# EAGLE library part AP65111AWU-7 (library CMWC-Product)
Buck Switching Regulator IC Positive Adjustable 0.8V / 1 Output 1.5A / SOT-23-6 Thin / TSOT-23-6
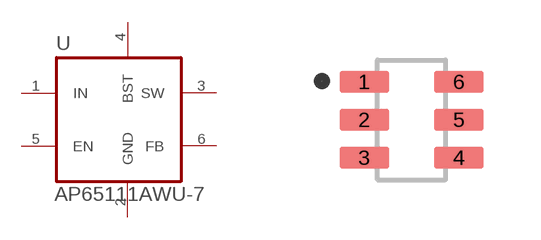
[diagram p4: symbol with the pads of SOT95P280X100-6N; footprint SOT95P280X100-6N]

Designator prefix U

## AP65111AWU-7 (DIGI-KEY_PART_NUMBER: AP65111AWU-7DICT-ND; MF: Diodes Inc.; MP: AP65111AWU-7; PACKAGE: TSOT-23-6 Diodes Inc.; VALUE: AP65111AWU)  [SOT95P280X100-6N]
1  IN  in
2  GND  pwr
3  SW  out
4  BST  in
5  EN  in
6  FB  in

## Footprint SOT95P280X100-6N (pad centres in mm)
smd 1.24 x 0.55: 1 -1.185,0.95; 2 -1.185,0; 3 -1.185,-0.95; 4 1.185,-0.95; 5 1.185,0; 6 1.185,0.95